# EAGLE library part TCPP01-M12 (library Bits_library_eagle)
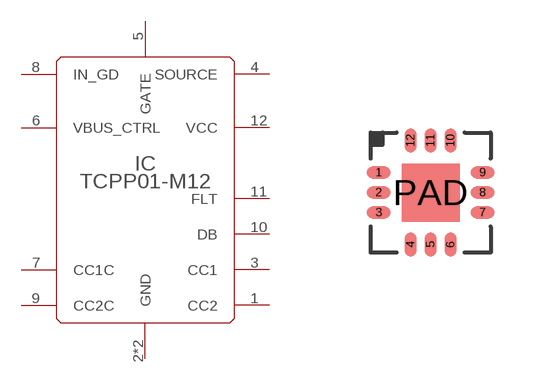
[diagram p48: symbol with the pads of QFN-12; footprint QFN-12]

Designator prefix IC

## TCPP01-M12  [QFN-12]
1  CC2
2  GND  pwr
3  CC1
4  SOURCE  pwr
5  GATE  out
6  VBUS_CTRL  in
7  CC1C
8  IN_GD  pwr
9  CC2C
10  DB
11  FLT  out
12  VCC  in
PAD  GND  pwr

## Footprint QFN-12 (pad centres in mm)
smd 0.6 x 0.3: 1 -1.3,0.5; 2 -1.3,0; 3 -1.3,-0.5; 7 1.3,-0.5; 8 1.3,0; 9 1.3,0.5
smd 0.3 x 0.6: 4 -0.5,-1.3; 5 0,-1.3; 6 0.5,-1.3; 10 0.5,1.3; 11 0,1.3; 12 -0.5,1.3
smd 1.45 x 1.45: PAD 0,0